# Altium schematic symbol library m.SchLib: 17 symbols
Pins are listed as number, name and electrical type; pins without a type are passive.

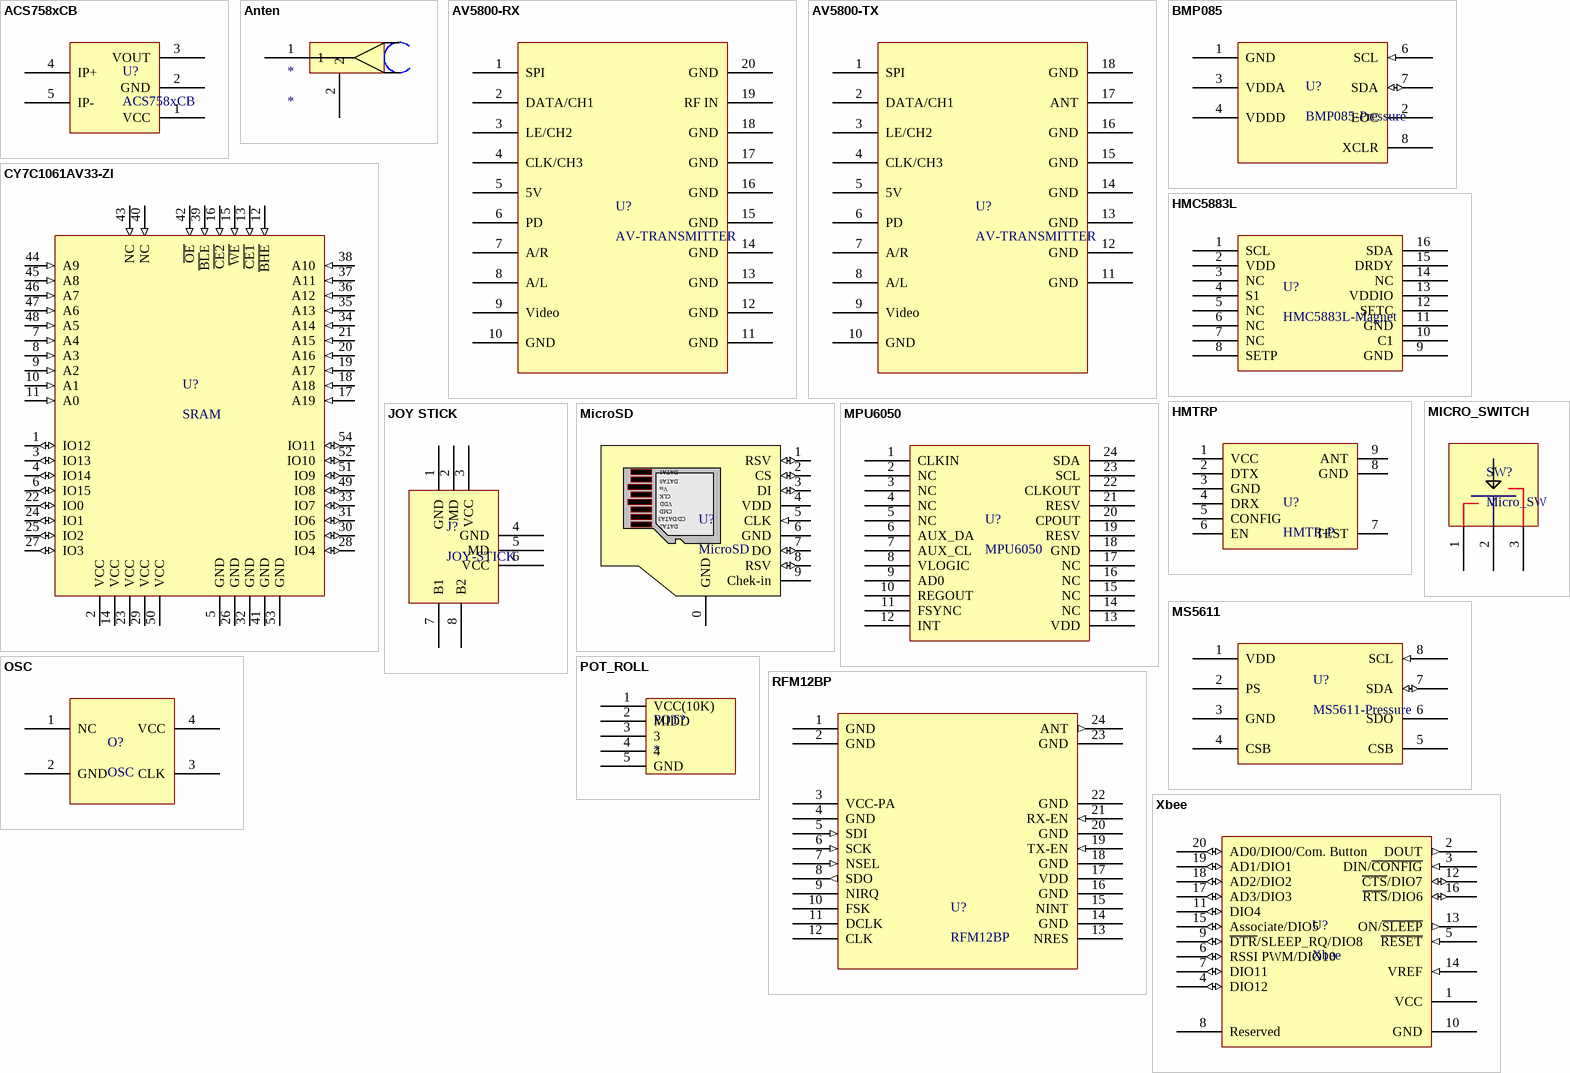
[diagram p0: symbols ACS758xCB to Xbee]

## ACS758xCB
designator U?
footprint ACS758xCB-PFF
pins: 1 VCC, 2 GND, 3 VOUT, 4 IP+, 5 IP-

## Anten
designator *
footprint Anten
pins: 1, 2
1 alternate drawing of the same symbol

## AV5800-RX
designator U?, comment AV-TRANSMITTER
footprint AV-RX
pins: 1 SPI, 2 DATA/CH1, 3 LE/CH2, 4 CLK/CH3, 5 5V, 6 PD, 7 A/R, 8 A/L, 9 Video, 10 GND, 11 GND, 12 GND, 13 GND, 14 GND, 15 GND, 16 GND, 17 GND, 18 GND, 19 RF IN, 20 GND

## AV5800-TX
designator U?, comment AV-TRANSMITTER
footprint AV-TX
pins: 1 SPI, 2 DATA/CH1, 3 LE/CH2, 4 CLK/CH3, 5 5V, 6 PD, 7 A/R, 8 A/L, 9 Video, 10 GND, 11 GND, 12 GND, 13 GND, 14 GND, 15 GND, 16 GND, 17 ANT, 18 GND

## BMP085
designator U?, comment BMP085-Pressure
footprint BMP085 (LCC, 8-Pins)
pins: 1 GND, 2 EOC, 3 VDDA, 4 VDDD, 6 SCL (in), 7 SDA (io), 8 XCLR

## CY7C1061AV33-ZI
designator U?, comment SRAM
footprint TSOP54 (TSOP, 54-Leads, Body 22.3x10.1mm (max), Pitch 0.80mm, IPC Medium Density)
pins: 1 IO12 (io), 2 VCC (power), 3 IO13 (io), 4 IO14 (io), 5 GND (power), 6 IO15 (io), 7 A4 (in), 8 A3 (in), 9 A2 (in), 10 A1 (in), 11 A0 (in), 12 ~{BHE} (in), 13 ~{CE1} (in), 14 VCC (power), 15 ~{WE} (in), 16 ~{CE2} (in), 17 A19 (in), 18 A18 (in), 19 A17 (in), 20 A16 (in), 21 A15 (in), 22 IO0 (io), 23 VCC (power), 24 IO1 (io), 25 IO2 (io), 26 GND (power), 27 IO3 (io), 28 IO4 (io), 29 VCC (power), 30 IO5 (io), 31 IO6 (io), 32 GND (power), 33 IO7 (io), 34 A14 (in), 35 A13 (in), 36 A12 (in), 37 A11 (in), 38 A10 (in), 39 ~{BL}E (in), 40 NC (in), 41 GND (power), 42 ~{OE} (in), 43 NC (in), 44 A9 (in), 45 A8 (in), 46 A7 (in), 47 A6 (in), 48 A5 (in), 49 IO8 (io), 50 VCC (power), 51 IO9 (io), 52 IO10 (io), 53 GND (power), 54 IO11 (io)

## HMC5883L
designator U?, comment HMC5883L-Magnet
footprint QFN16 (QFN, 16-Leads, Body 3.0x3.0mm (max), Pitch 0.50mm, IPC Medium Density)
pins: 1 SCL, 2 VDD, 3 NC, 4 S1, 5 NC, 6 NC, 7 NC, 8 SETP, 9 GND, 10 C1, 11 GND, 12 SETC, 13 VDDIO, 14 NC, 15 DRDY, 16 SDA

## HMTRP
designator U?, comment HMTR-P
footprint HMTRP
pins: 1 VCC (power), 2 DTX (power), 3 GND (power), 4 DRX (power), 5 CONFIG (power), 6 EN (power), 7 TEST (power), 8 GND (power), 9 ANT (power)

## JOY STICK
designator J?, comment JOY-STICK
footprint JOY STICK
pins: 1 GND, 2 MD, 3 VCC, 4 GND, 5 MD, 6 VCC, 7 B1, 8 B2

## MICRO_SWITCH
designator SW?, comment Micro_SW
footprint MICRO-SWITCH(R)
pins: 1, 2, 3

## MicroSD
designator U?
footprint MicroSD
pins: 0 GND (power) "Data Bit 2", 1 RSV (io) "Data Bit 2", 2 CS (io) "Card Detect/Data Bit 3", 3 DI (io) "Command Line", 4 VDD (power) "Supply Voltage 2.7V/3.3V", 5 CLK (in) "Clock", 6 GND (power) "Ground", 7 DO (io) "Data Bit 0", 8 RSV (io) "Data Bit 1", 9 Chek-in "Data Bit 1"
text: DATA1; DATA0; Vss; CMD; CD/DATA3; DATA2

## MPU6050
designator U?
footprint QFN-36 (QFN, 24-Leads, Body 4.1x4.1mm (max), Pitch 0.50mm, IPC Medium Density)
pins: 1 CLKIN, 2 NC, 3 NC, 4 NC, 5 NC, 6 AUX_DA, 7 AUX_CL, 8 VLOGIC, 9 AD0, 10 REGOUT, 11 FSYNC, 12 INT, 13 VDD, 14 NC, 15 NC, 16 NC, 17 NC, 18 GND, 19 RESV, 20 CPOUT, 21 RESV, 22 CLKOUT, 23 SCL, 24 SDA

## MS5611
designator U?, comment MS5611-Pressure
footprint MS5611
pins: 1 VDD, 2 PS, 3 GND, 4 CSB, 5 CSB, 6 SDO, 7 SDA (io), 8 SCL (in)

## OSC
designator O?
footprint OSC
pins: 1 NC, 2 GND, 3 CLK, 4 VCC

## POT_ROLL
designator POT?
footprint POT_ROLL
pins: 1 VCC(10K), 2 MIDD, 3, 4, 5 GND

## RFM12BP
designator U?
footprint RFM12BP
pins: 1 GND (power), 2 GND (power), 3 VCC-PA (power), 4 GND (power), 5 SDI (in), 6 SCK (in), 7 NSEL (in), 8 SDO (out), 9 NIRQ, 10 FSK, 11 DCLK, 12 CLK, 13 NRES, 14 GND (power), 15 NINT, 16 GND (power), 17 VDD (power), 18 GND (power), 19 TX-EN (in), 20 GND (power), 21 RX-EN (in), 22 GND (power), 23 GND (power), 24 ANT (out)

## Xbee
designator U?
footprint Xbee-Pro
footprint Xbee
pins: 1 VCC (power), 2 DOUT (out), 3 DIN/~{CONFIG} (in), 4 DIO12 (io), 5 ~{RESET} (in), 6 RSSI PWM/DIO10 (io), 7 DIO11 (io), 8 Reserved, 9 ~{DTR}/SLEEP_RQ/DIO8 (io), 10 GND (power), 11 DIO4 (io), 12 ~{CTS}/DIO7 (io), 13 ON/~{SLEEP} (out), 14 VREF (in), 15 Associate/DIO5 (io), 16 ~{RTS}/DIO6 (io), 17 AD3/DIO3 (io), 18 AD2/DIO2 (io), 19 AD1/DIO1 (io), 20 AD0/DIO0/Com. Button (io)